# Altium footprint library AudioComponents.PcbLib: 6 footprints
Each footprint in its own frame and in the unit in brackets; x right, y up, seen from the top. Pads: shape width x height; smd on the part's side, far side on the other; paste and mask are expansions set on the pad; w line width, h text height; cw(c..) or ccw(c..) is an arc to the next point about the centre after c.
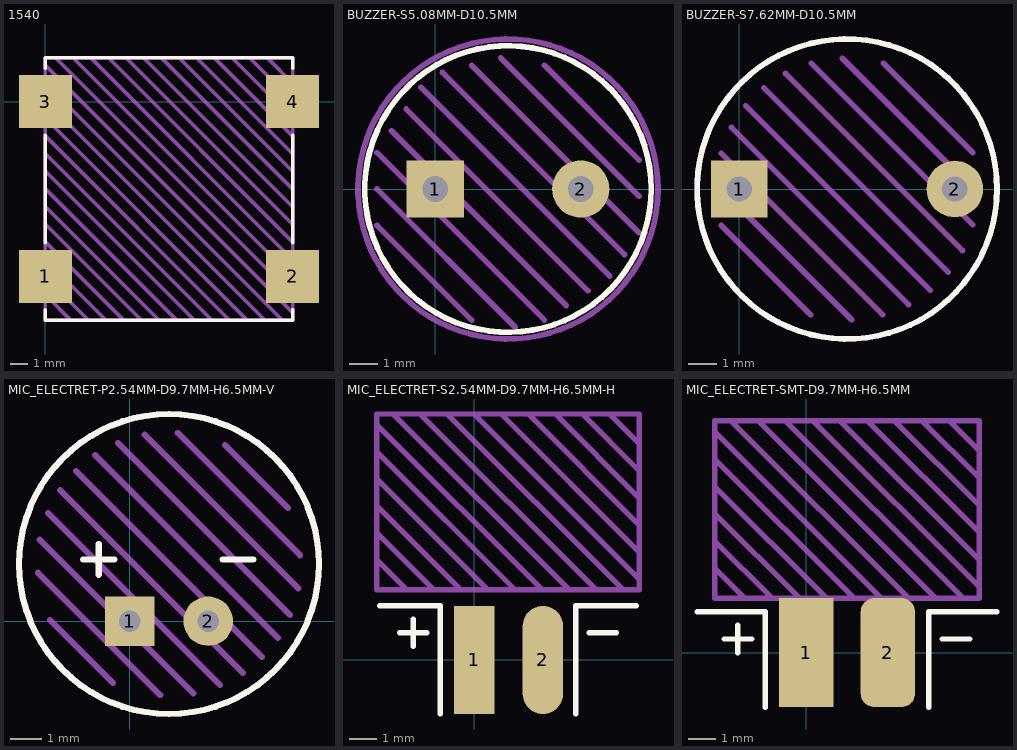
[diagram p0: the footprints below, top view; thin cyan lines are the x and y axes]

## 1540 [mm]
pads (4):
  rect 3x3 smd: 1(0,-9.9) 2(14,-9.9) 3(0,0) 4(14,0)
Top Overlay:
  lines w0.2: 0,-11.8 0,-12.4 14,-12.4 14,-11.8 ; 0,-8 0,-1.9 ; 0,1.9 0,2.5 14,2.5 14,1.9 ; 14,-8 14,-1.9
Top Draw:
  lines w0.2: 0,-10.95 1.45,-12.4 ; 0,-9.95 2.45,-12.4 ; 0,-8.95 3.45,-12.4 ; 0,-7.95 4.45,-12.4 ; 0,-6.95 5.45,-12.4 ; 0,-5.95 6.45,-12.4 ; 0,-4.95 7.45,-12.4 ; 0,-3.95 8.45,-12.4 ; 0,-2.95 9.45,-12.4 ; 0,-1.95 10.45,-12.4 ; 0,-0.95 11.45,-12.4 ; 0,0.05 12.45,-12.4 ; 0,1.05 13.45,-12.4 ; 0,2.05 14,-11.95 ; 0.55,2.5 14,-10.95 ; 1.55,2.5 14,-9.95 ; 2.55,2.5 14,-8.95 ; 3.55,2.5 14,-7.95 ; 4.55,2.5 14,-6.95 ; 5.55,2.5 14,-5.95 ; 6.55,2.5 14,-4.95 ; 7.55,2.5 14,-3.95 ; 8.55,2.5 14,-2.95 ; 9.55,2.5 14,-1.95 ; 10.55,2.5 14,-0.95 ; 11.55,2.5 14,0.05 ; 12.55,2.5 14,1.05 ; 0,-12.4 14,-12.4 14,2.5 0,2.5 0,-12.4
Top Info:
  text "'.Comment'" at 0.627,-14.575 h1.5

## BUZZER-S5.08MM-D10.5MM [mm]
pads (2):
  rect 2x2 hole 0.9: 1(0,0)
  round 2 hole 0.9: 2(5.08,0)
Top Overlay:
  circle w0.2: c2.54,0 r5
Top Draw:
  circle w0.2: c2.54,0 r5.236
  lines w0.2: -2.032,-1.27 1.27,-4.572 ; -2.032,0 2.794,-4.826 ; -2.032,1.27 3.81,-4.572 ; -1.524,2.032 4.572,-4.064 ; -1.016,2.794 5.334,-3.556 ; -0.508,3.556 6.096,-3.048 ; 0.254,4.064 6.604,-2.286 ; 1.27,4.318 7.112,-1.524 ; 2.286,4.572 7.112,-0.254 ; 3.81,4.318 7.112,1.016
Top Info:
  text "'.Comment'" at -1.749,-6.783 h1
3D body: height 6, standoff 0, extent -2.76,-5.297 7.84,5.297
3D body: height 5.55, standoff 5.5, extent 1.537,-1 3.537,1
3D body: height -0.97, standoff -3, extent 4.68,-0.4 5.48,0.4
3D body: height -0.97, standoff -3, extent -0.402,-0.4 0.398,0.4

## BUZZER-S7.62MM-D10.5MM [mm]
pads (2):
  rect 2x2 hole 0.9: 1(0,0)
  round 2 hole 0.9: 2(7.62,0)
Top Overlay:
  circle w0.2: c3.81,0 r5.3
Top Draw:
  circle w0.2: c3.81,0 r5.3
  lines w0.2: -0.812,0.167 3.977,-4.622 ; -0.638,1.266 5.076,-4.448 ; -0.633,-1.285 2.525,-4.443 ; -0.273,2.173 5.983,-4.083 ; 0.237,2.937 6.747,-3.573 ; 0.873,3.573 7.383,-2.937 ; 1.637,4.083 7.893,-2.173 ; 2.544,4.448 8.258,-1.266 ; 3.643,4.622 8.432,-0.167 ; 5.095,4.443 8.253,1.285
Top Info:
  text "'.Comment'" at -0.449,-6.783 h1
3D body: height -1, standoff -3, extent -0.4,-0.4 0.4,0.4
3D body: height -1, standoff -3, extent 7.22,-0.4 8.02,0.4
3D body: height 5.55, standoff 5.5, extent 2.807,-1 4.807,1
3D body: height 6, standoff 0, extent -1.49,-5.297 9.11,5.297

## MIC_ELECTRET-P2.54MM-D9.7MM-H6.5MM-V [mm]
pads (2):
  rect 1.6x1.6 hole 0.7: 1(0,0)
  round 1.6 hole 0.7: 2(2.54,0)
Top Overlay:
  circle w0.2: c1.27,1.85 r4.85
  lines w0.2: -1.5,2 -0.5,2 ; -1,1.5 -1,2.5 ; 3,2 4,2
Top Draw:
  circle w0.2: c1.27,1.85 r4.85
  lines w0.2: -2.97,1.565 0.985,-2.39 ; -2.907,2.633 2.053,-2.327 ; -2.645,3.503 2.923,-2.065 ; -2.574,0.037 -0.543,-1.994 ; -2.247,4.236 3.656,-1.667 ; -1.735,4.855 4.275,-1.155 ; -1.116,5.367 4.787,-0.536 ; -0.383,5.765 5.185,0.197 ; 0.487,6.027 5.447,1.067 ; 1.555,6.09 5.51,2.135 ; 3.083,5.694 5.114,3.663
Top Info:
  text "'.Comment'" at -4.041,-4.793 h1.25
3D body "MIC_ELECTRET-P2,54MM-D9,7MM-H6.5MM.stp": height 6.55, standoff -3.9, extent -3.6,-3 6.1,6.7

## MIC_ELECTRET-S2.54MM-D9.7MM-H6.5MM-H [mm]
pads (2):
  rect 1.5x4 smd: 1(0,0)
  oval 1.5x4 smd: 2(2.54,0)
Top Overlay:
  lines w0.2: -3.5,2 -1.25,2 -1.25,-2 ; -2.75,1 -1.75,1 ; -2.25,0.5 -2.25,1.5 ; 3.75,-2 3.75,2 6,2 ; 4.25,1 5.25,1
Top Draw:
  lines w0.2: -3.6,3.7 -2.5,2.6 ; -3.6,4.7 -1.5,2.6 ; -3.6,5.7 -0.5,2.6 ; -3.6,6.7 0.5,2.6 ; -3.6,7.7 1.5,2.6 ; -3.6,8.7 2.5,2.6 ; -3,9.1 3.5,2.6 ; -2,9.1 4.5,2.6 ; -1,9.1 5.5,2.6 ; 0,9.1 6.1,3 ; 1,9.1 6.1,4 ; 2,9.1 6.1,5 ; 3,9.1 6.1,6 ; 4,9.1 6.1,7 ; 5,9.1 6.1,8 ; -3.6,2.6 6.1,2.6 6.1,9.1 -3.6,9.1 -3.6,2.6
Bottom Draw:
  lines w0.2: -3.6,3.7 -2.5,2.6 ; -3.6,4.7 -1.5,2.6 ; -3.6,5.7 -0.5,2.6 ; -3.6,6.7 0.5,2.6 ; -3.6,7.7 1.5,2.6 ; -3.6,8.7 2.5,2.6 ; -3,9.1 3.5,2.6 ; -2,9.1 4.5,2.6 ; -1,9.1 5.5,2.6 ; 0,9.1 6.1,3 ; 1,9.1 6.1,4 ; 2,9.1 6.1,5 ; 3,9.1 6.1,6 ; 4,9.1 6.1,7 ; 5,9.1 6.1,8 ; -3.6,2.6 -3.6,9.1 6.1,9.1 6.1,2.6 -3.6,2.6
Top Info:
  text "'.Comment'" at -4.041,-3.815 h1.25
3D body "MIC_ELECTRET-P2,54MM-D9,7MM-H6.5MM.stp": height 3.2, standoff -6.5, extent -3.6,-1.35 6.1,9.1

## MIC_ELECTRET-SMT-D9.7MM-H6.5MM [mm]
pads (2):
  rect 2x4 all layers, no hole: 1(0,0)
  rrect50% 2x4 all layers, no hole: 2(3,0)
Top Overlay:
  lines w0.2: -4,1.5 -1.5,1.5 -1.5,-2 ; -3,0.5 -2,0.5 ; -2.5,0 -2.5,1 ; 4.5,-2 4.5,1.5 7,1.5 ; 5,0.5 6,0.5
Bottom Overlay:
  lines w0.2: -4,1.5 -1.5,1.5 -1.5,-2 ; -3,0.5 -2,0.5 ; -2.5,0 -2.5,1 ; 4.5,-2 4.5,1.5 7,1.5 ; 5,0.5 6,0.5
Top Draw:
  lines w0.2: -3.35,3.1 -2.25,2 ; -3.35,4.1 -1.25,2 ; -3.35,5.1 -0.25,2 ; -3.35,6.1 0.75,2 ; -3.35,7.1 1.75,2 ; -3.35,8.1 2.75,2 ; -2.75,8.5 3.75,2 ; -1.75,8.5 4.75,2 ; -0.75,8.5 5.75,2 ; 0.25,8.5 6.35,2.4 ; 1.25,8.5 6.35,3.4 ; 2.25,8.5 6.35,4.4 ; 3.25,8.5 6.35,5.4 ; 4.25,8.5 6.35,6.4 ; 5.25,8.5 6.35,7.4 ; -3.35,2 6.35,2 6.35,8.5 -3.35,8.5 -3.35,2
Bottom Draw:
  lines w0.2: -3.35,3.1 -2.25,2 ; -3.35,4.1 -1.25,2 ; -3.35,5.1 -0.25,2 ; -3.35,6.1 0.75,2 ; -3.35,7.1 1.75,2 ; -3.35,8.1 2.75,2 ; -2.75,8.5 3.75,2 ; -1.75,8.5 4.75,2 ; -0.75,8.5 5.75,2 ; 0.25,8.5 6.35,2.4 ; 1.25,8.5 6.35,3.4 ; 2.25,8.5 6.35,4.4 ; 3.25,8.5 6.35,5.4 ; 4.25,8.5 6.35,6.4 ; 5.25,8.5 6.35,7.4 ; -3.35,2 6.35,2 6.35,8.5 -3.35,8.5 -3.35,2
Top Info:
  text "'.Comment'" at -3.811,-3.829 h1.25
3D body "MIC_ELECTRET-D9,7MM-H6.5MM.stp": height 4.05, standoff -5.65, extent -3.35,1.95 6.35,8.45